# Altium schematic symbol library USB2244I-AEZG-06-TR.SchLib: 1 symbol
Pins are listed as number, name and electrical type; pins without a type are passive.

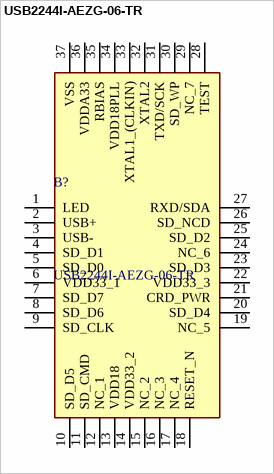
[diagram p0: symbol USB2244I-AEZG-06-TR]

## USB2244I-AEZG-06-TR
designator B?
USB Interface IC USB 2.0 SD/MMC Flash Media Contrl , 3V to 3.6V ,135mA , -40C +85C; Manufacturer_Name: Microchip; Geometry.Height: 0.9mm; Manufacturer_Part_Number: USB2244I-AEZG-06-TR; Mouser Part Number: 579-USB2244IAEZG06TR; Mouser Price/Stock: https://www.mouser.co.uk/ProductDetail/Microchip-Technology/USB2244I-AEZG-06-TR?qs=8jfIC9vqKDsAu01KH5BS1Q%3D%3D; Arrow Part Number: USB2244I-AEZG-06-TR; Arrow Price/Stock: https://www.arrow.com/en/products/usb2244i-aezg-06-tr/microchip-technology?region=nac; Datasheet Link: http://www.microchip.com/mymicrochip/filehandler.aspx?ddocname=en562093
footprint QFN50P600X600X90-37N-D
pins: 1 LED, 2 USB+, 3 USB-, 4 SD_D1, 5 SD_D0, 6 VDD33_1, 7 SD_D7, 8 SD_D6, 9 SD_CLK, 10 SD_D5, 11 SD_CMD, 12 NC_1, 13 VDD18, 14 VDD33_2, 15 NC_2, 16 NC_3, 17 NC_4, 18 RESET_N, 19 NC_5, 20 SD_D4, 21 CRD_PWR, 22 VDD33_3, 23 SD_D3, 24 NC_6, 25 SD_D2, 26 SD_NCD, 27 RXD/SDA, 28 TEST, 29 NC_7, 30 SD_WP, 31 TXD/SCK, 32 XTAL2, 33 XTAL1_(CLKIN), 34 VDD18PLL, 35 RBIAS, 36 VDDA33, 37 VSS